# EAGLE library part HEADER-3X10 (library pixhawk2)
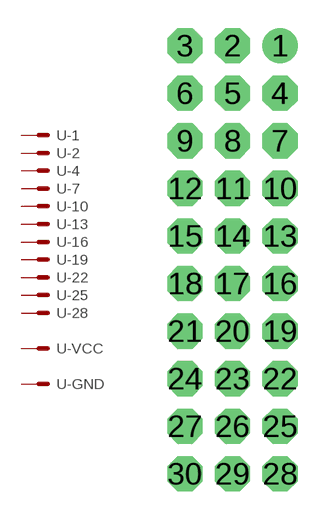
[diagram p100: symbol with the pads of 3X10RA; footprint 3X10RA]

Designator prefix -; gates -1=M -2=M -4=M -7=M -10=M -13=M -16=M -19=M -22=M -25=M -28=M -VCC=M -GND=M

## HEADER-3X10  [3X10RA]
1  -1:S  pas
2  -2:S  pas
3  -GND:S  pas
4  -4:S  pas
5  -VCC:S  pas
6  -GND:S  pas
7  -7:S  pas
8  -VCC:S  pas
9  -GND:S  pas
10  -10:S  pas
11  -VCC:S  pas
12  -GND:S  pas
13  -13:S  pas
14  -VCC:S  pas
15  -GND:S  pas
16  -16:S  pas
17  -VCC:S  pas
18  -GND:S  pas
19  -19:S  pas
20  -VCC:S  pas
21  -GND:S  pas
22  -22:S  pas
23  -VCC:S  pas
24  -GND:S  pas
25  -25:S  pas
26  -VCC:S  pas
27  -GND:S  pas
28  -28:S  pas
29  -VCC:S  pas
30  -GND:S  pas

## Footprint 3X10RA (pad centres in mm)
drill 1.016 pad 1.88: 1 2.54,11.43
drill 1.016 pad 1.88 octagon: 2 0,11.43; 3 -2.54,11.43; 4 2.54,8.89; 5 0,8.89; 6 -2.54,8.89; 7 2.54,6.35; 8 0,6.35; 9 -2.54,6.35; 10 2.54,3.81; 11 0,3.81; 12 -2.54,3.81; 13 2.54,1.27; 14 0,1.27; 15 -2.54,1.27; 16 2.54,-1.27; 17 0,-1.27; 18 -2.54,-1.27; 19 2.54,-3.81; 20 0,-3.81; 21 -2.54,-3.81; 22 2.54,-6.35; 23 0,-6.35; 24 -2.54,-6.35; 25 2.54,-8.89; 26 0,-8.89; 27 -2.54,-8.89; 28 2.54,-11.43; 29 0,-11.43; 30 -2.54,-11.43